# Altium schematic symbol library Tornillos.SchLib: 1 symbol
Pins are listed as number, name and electrical type; pins without a type are passive.

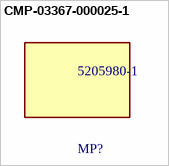
[diagram p0: symbol CMP-03367-000025-1]

## CMP-03367-000025-1
designator MP?, comment 5205980-1
CONN D-SUB SCREW RETAINER MALE; ELV: Compliant; Length: 7.1mm; Mount: Screw; Color: Yellow; Lead Free: Lead Free; Depth: 6.35mm; Series: AMPLIMITE; Packaging: Bag; Gender: Male; RoHS Compliant: Yes; Package Quantity: 1; REACH SVHC: No SVHC; Radiation Hardening: No; Material: Steel
footprint Tornillo